# EAGLE library part MUX-74HC4067 (library KiloMux)
16-channel analog MUX
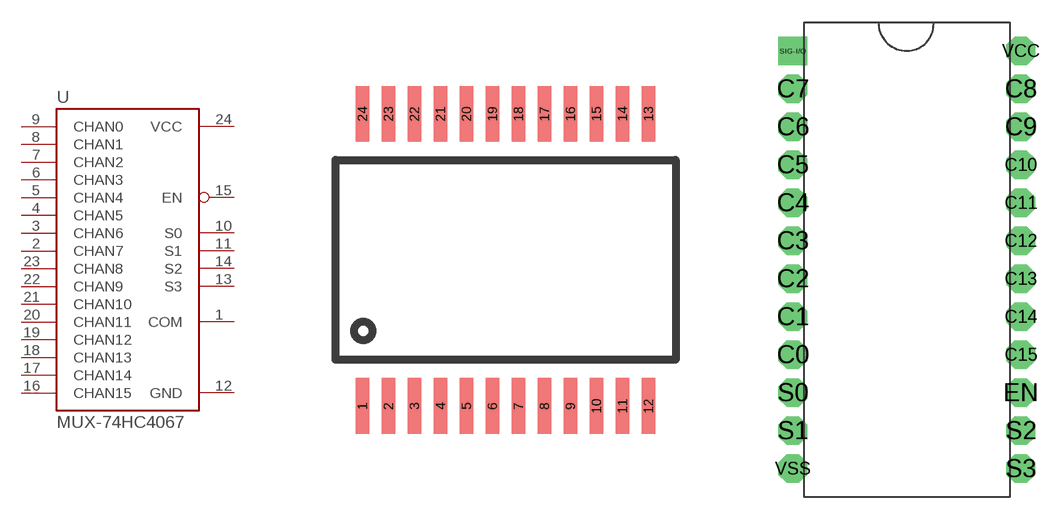
[diagram p0: symbol with the pads of SSOP24; footprints SSOP24, DIP24]

Designator prefix -

## MUX-74HC4067SMD  [SSOP24]
1  COM
2  CHAN7
3  CHAN6
4  CHAN5
5  CHAN4
6  CHAN3
7  CHAN2
8  CHAN1
9  CHAN0
10  S0  in
11  S1  in
12  GND
13  S3  in
14  S2  in
15  EN  in
16  CHAN15
17  CHAN14
18  CHAN13
19  CHAN12
20  CHAN11
21  CHAN10
22  CHAN9
23  CHAN8
24  VCC

## MUX-74HC4067DIP  [DIP24]
C0  CHAN0
C1  CHAN1
C2  CHAN2
C3  CHAN3
C4  CHAN4
C5  CHAN5
C6  CHAN6
C7  CHAN7
C8  CHAN8
C9  CHAN9
C10  CHAN10
C11  CHAN11
C12  CHAN12
C13  CHAN13
C14  CHAN14
C15  CHAN15
EN  EN  in
S0  S0  in
S1  S1  in
S2  S2  in
S3  S3  in
SIG-I/O  COM
VCC  VCC
VSS  GND

## Footprint SSOP24 (pad centres in mm)
smd 0.348 x 1.397: 1 -3.575,-3.656; 2 -2.925,-3.656; 3 -2.275,-3.656; 4 -1.625,-3.656; 5 -0.975,-3.656; 6 -0.325,-3.656; 7 0.325,-3.656; 8 0.975,-3.656; 9 1.625,-3.656; 10 2.275,-3.656; 11 2.925,-3.656; 12 3.575,-3.656; 13 3.575,3.656; 14 2.925,3.656; 15 2.275,3.656; 16 1.625,3.656; 17 0.975,3.656; 18 0.325,3.656; 19 -0.325,3.656; 20 -0.975,3.656; 21 -1.625,3.656; 22 -2.275,3.656; 23 -2.925,3.656; 24 -3.575,3.656

## Footprint DIP24 (pad centres in mm)
drill 1 pad 1.93 octagon: C0 -7.62,-6.35; C1 -7.62,-3.81; C2 -7.62,-1.27; C3 -7.62,1.27; C4 -7.62,3.81; C5 -7.62,6.35; C6 -7.62,8.89; C7 -7.62,11.43; C8 7.62,11.43; C9 7.62,8.89; C10 7.62,6.35; C11 7.62,3.81; C12 7.62,1.27; C13 7.62,-1.27; C14 7.62,-3.81; C15 7.62,-6.35; EN 7.62,-8.89; S0 -7.62,-8.89; S1 -7.62,-11.43; S2 7.62,-11.43; S3 7.62,-13.97; VCC 7.62,13.97; VSS -7.62,-13.97
drill 1 pad 1.93 square: SIG-I/O -7.62,13.97